# Altium schematic symbol library Capacitors.SchLib: 4 symbols
Pins are listed as number, name and electrical type; pins without a type are passive.

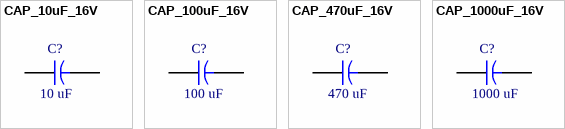
[diagram p0: symbols CAP_10uF_16V to CAP_1000uF_16V]

## CAP_10uF_16V
designator C?  value 10 uF
Capacitor; Published: 23-Sep-2002; PackageReference: CAPR5-4X5; Publisher: Altium Limited; PackageDescription: Capacitor; 2 Leads
footprint CAP_1.5mm
pins: 1, 2

## CAP_100uF_16V
designator C?  value 100 uF
Capacitor; Published: 23-Sep-2002; PackageReference: CAPR5-4X5; Publisher: Altium Limited; PackageDescription: Capacitor; 2 Leads
footprint CAP_2mm
pins: 1, 2

## CAP_470uF_16V
designator C?  value 470 uF
Capacitor; Published: 23-Sep-2002; PackageReference: CAPR5-4X5; Publisher: Altium Limited; PackageDescription: Capacitor; 2 Leads
footprint CAP_3.5mm
pins: 1, 2

## CAP_1000uF_16V
designator C?  value 1000 uF
Capacitor; Published: 23-Sep-2002; PackageReference: CAPR5-4X5; Publisher: Altium Limited; PackageDescription: Capacitor; 2 Leads
footprint CAP_3.5mm
pins: 1, 2